# Altium footprint library B-NT_P.PcbLib: 21 footprints (part 1 of 2)
Each footprint in its own frame and in the unit in brackets; x right, y up, seen from the top. Pads: shape width x height; smd on the part's side, far side on the other; paste and mask are expansions set on the pad; w line width, h text height; cw(c..) or ccw(c..) is an arc to the next point about the centre after c.
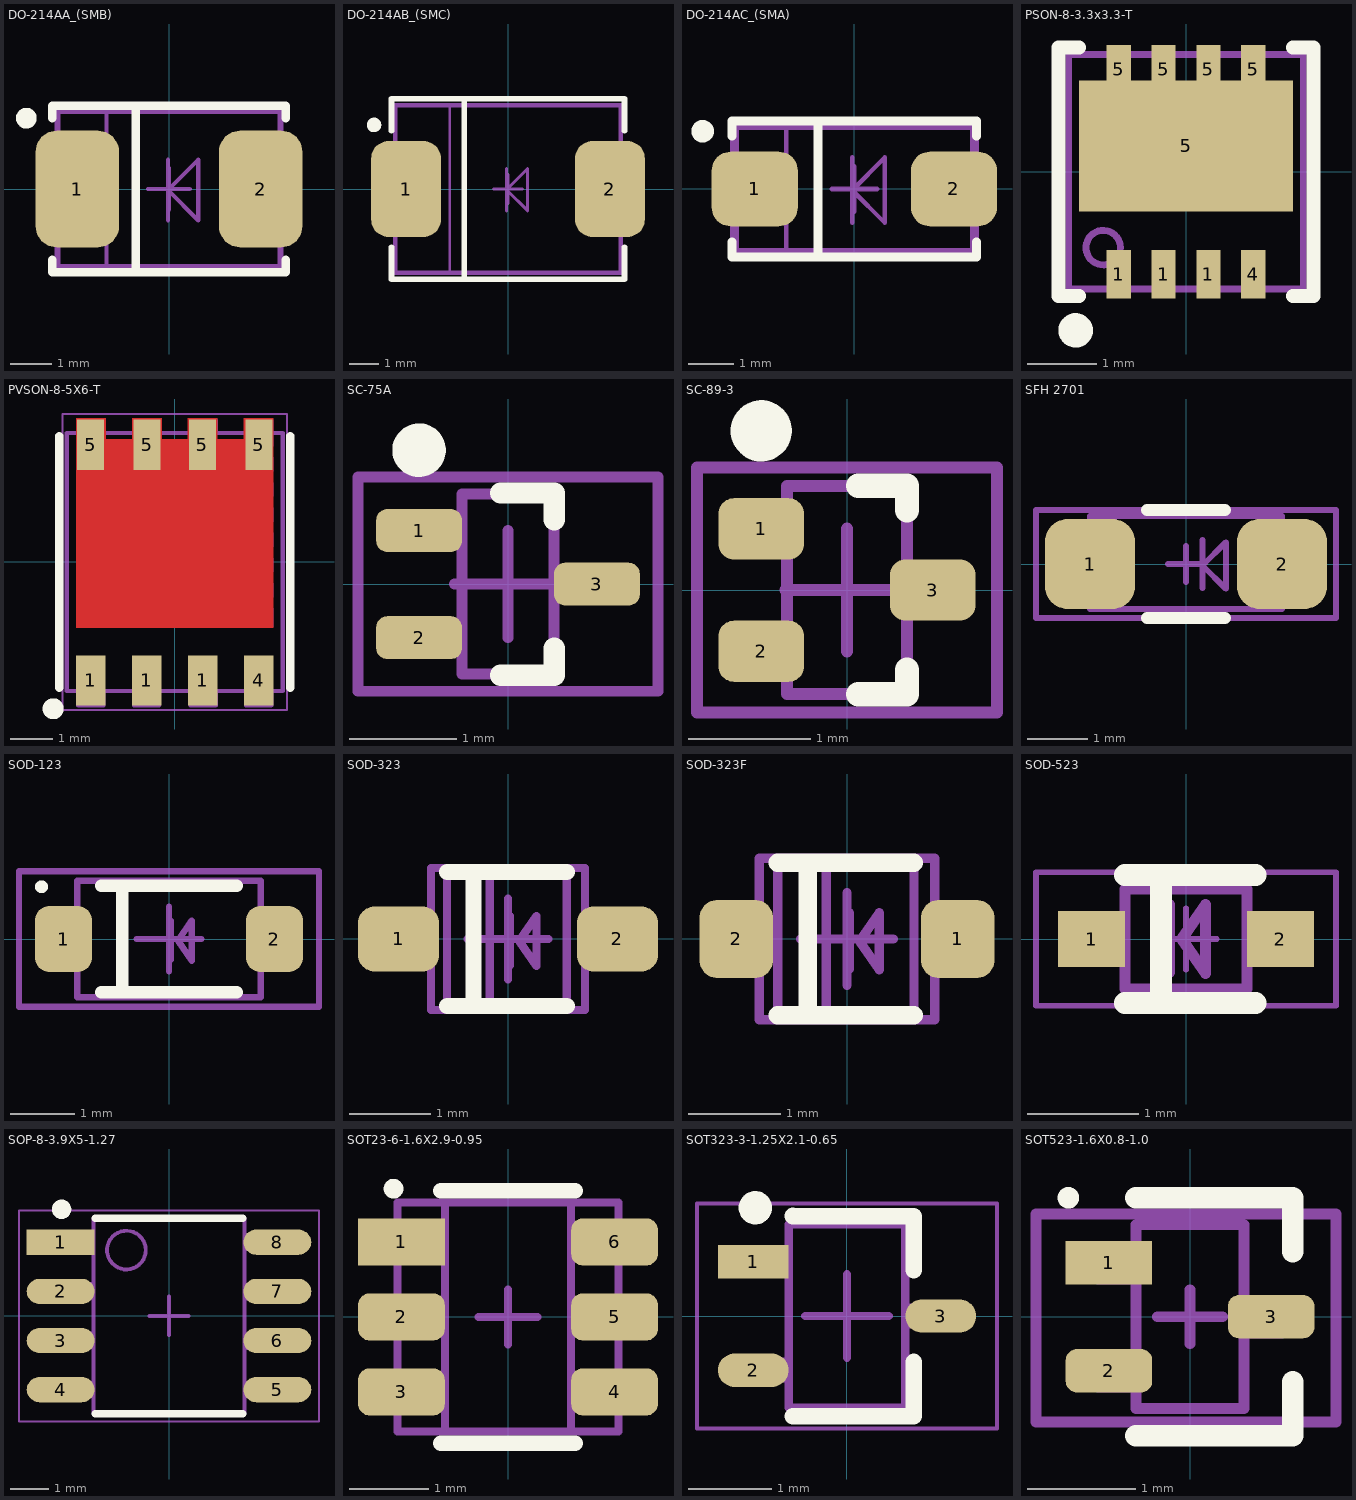
[diagram p0: the footprints below, top view; thin cyan lines are the x and y axes]

## DO-214AA_(SMB) [mm]
pads (2):
  rrect50% 2x2.8 smd: 1(-2.2,0) 2(2.2,0)
Top Overlay:
  circle w0.25: c-3.425,1.7 r0.125
  lines w0.2: -2.8,-1.7 -2.8,-2 2.8,-2 2.8,-1.7 ; -2.8,1.7 -2.8,2 2.8,2 2.8,1.7 ; -0.8,-2 -0.8,2
M3 Top Assy:
  lines w0.1: -1.5,-1.9 -1.5,1.9 ; -0.025,-0.75 -0.025,0.7 ; -2.7,-1.9 2.7,-1.9 2.7,1.9 -2.7,1.9 -2.7,-1.9 ; -0.025,-0.025 0.7,0.7 0.7,-0.75 -0.025,-0.025
M8 Top Brd Anno:
  lines w0.1: -0.5,0 0.5,0 ; 0,-0.5 0,0.5 ; -2.65,-1.85 2.65,-1.85 2.65,1.85 -2.65,1.85 -2.65,-1.85
3D body "SMB (DO-214AA).STEP": height 2.25, standoff 0, extent -2.65,-1.85 2.65,1.85

## DO-214AB_(SMC) [mm]
pads (2):
  rrect50% 2.4x3.3 smd: 1(-3.5,0) 2(3.5,0)
Top Overlay:
  circle w0.25: c-4.6,2.2 r0.125
  lines w0.2: -4,-2 -4,-3.1 4,-3.1 4,-2 ; -4,2 -4,3.1 4,3.1 4,2 ; -1.5,-3.1 -1.5,3.1
M3 Top Assy:
  lines w0.1: -2,-2.9 -2,2.9 ; -0.05,-0.75 -0.05,0.7 ; -3.9,-2.9 3.9,-2.9 3.9,2.9 -3.9,2.9 -3.9,-2.9 ; -0.05,-0.025 0.675,-0.75 0.675,0.7 -0.05,-0.025
M8 Top Brd Anno:
  lines w0.1: -0.5,0 0.5,0 ; 0,-0.5 0,0.5 ; -3.85,-2.85 3.85,-2.85 3.85,2.85 -3.85,2.85 -3.85,-2.85
3D body "SMC (DO214AB).STEP": height 2.4, standoff -0.05, extent -3.9,-2.953 3.9,2.946

## DO-214AC_(SMA) [mm]
pads (2):
  rrect50% 1.9x1.65 smd: 1(-2.2,0) 2(2.2,0)
Top Overlay:
  circle w0.25: c-3.35,1.275 r0.125
  lines w0.2: -2.7,-1.175 -2.7,-1.5 2.7,-1.5 2.7,-1.175 ; -2.7,1.175 -2.7,1.5 2.7,1.5 2.7,1.175 ; -0.8,-1.5 -0.8,1.5
M3 Top Assy:
  lines w0.1: -1.5,-1.4 -1.5,1.4 ; -0.05,-0.75 -0.05,0.7 ; -2.7,-1.4 2.7,-1.4 2.7,1.4 -2.7,1.4 -2.7,-1.4 ; -0.05,-0.025 0.675,-0.75 0.675,0.7 -0.05,-0.025
M8 Top Brd Anno:
  lines w0.1: -0.5,0 0.5,0 ; 0,-0.5 0,0.5 ; -2.6,-1.35 2.6,-1.35 2.6,1.35 -2.6,1.35 -2.6,-1.35
3D body "User Library-DO-214AC(SMA).step": height 2.29, standoff 0, extent -2.743,-1.397 2.743,1.397

## PSON-8-3.3x3.3-T [mm] "VSON, 8-Leads, Body 3.3x3.3mm, Pitch 0.65mm"
height 1
pads (9):
  rect 0.35x0.7 smd: 1(-0.975,-1.485) 1(-0.325,-1.485) 1(0.325,-1.485) 4(0.975,-1.485) 5(-0.975,1.485) 5(-0.325,1.485) 5(0.325,1.485) 5(0.975,1.485)
  rect 3.1x1.9 smd: 5(0,0.375)
Top Overlay:
  circle w0.25: c-1.6,-2.3 r0.125
  lines w0.2: -1.55,-1.8 -1.85,-1.8 -1.85,1.8 -1.55,1.8 ; 1.55,-1.8 1.85,-1.8 1.85,1.8 1.55,1.8
M3 Top Assy:
  circle w0.1: c-1.2,-1.1 r0.25
  lines w0.1: -1.7,-1.7 -1.7,1.7 1.7,1.7 1.7,-1.7 -1.7,-1.7
M8 Top Brd Anno:
  lines w0.05: -1.7,-1.7 1.7,-1.7 1.7,1.7 -1.7,1.7 -1.7,-1.7
  lines w0.1: -0.5,0 0.5,0 ; 0,-0.5 0,0.5
3D body "CSD25404Q3_DQG_8.STP": height 1.1, standoff 0, extent -1.65,-1.65 1.65,1.65

## PVSON-8-5X6-T [mm] "TDSON, 8-Leads, Body 6x5mm, Pitch 1.27mm"
height 1
pads (8):
  rect 0.7x1.2 smd: 1(-2,-2.825) 1(-0.667,-2.825) 1(0.667,-2.825) 4(2,-2.825)
  rect 0.65x1.2 smd: 5(-2.007,2.794) 5(-0.66,2.794) 5(0.66,2.794) 5(2.007,2.794)
Top Layer:
  region: -2.35,2.925 -2.35,-1.575 2.35,-1.575 2.35,2.925
  region: -2.35,2.925 -1.65,2.925 -1.65,3.425 -2.35,3.425
  region: 1.65,2.925 2.35,2.925 2.35,3.425 1.65,3.425
  region: -1.015,2.925 -0.315,2.925 -0.315,3.425 -1.015,3.425
  region: 0.315,2.925 1.015,2.925 1.015,3.425 0.315,3.425
Top Overlay:
  circle w0.25: c-2.9,-3.5 r0.125
  lines w0.2: -2.75,-3 -2.75,3 ; 2.75,-3 2.75,3
M3 Top Assy:
  lines w0.1: -2.3,-3.125 -2.3,-3.425 -1.7,-3.425 -1.7,-3.125 ; -2.3,-1.125 -2.3,-1.525 -1.9,-1.525 ; -2.3,-0.825 -2.3,-0.525 ; -2.3,-0.225 -2.3,0.075 ; -2.3,0.375 -2.3,0.675 ; -2.3,0.975 -2.3,1.275 ; -2.3,1.575 -2.3,1.875 ; -2.3,2.175 -2.3,2.475 ; -2.3,2.775 -2.3,3.075 -2.3,3.375 -1.7,3.375 -1.7,3.075 ; -1.375,-1.525 -1.075,-1.525 ; -0.975,-3.125 -0.975,-3.425 -0.375,-3.425 -0.375,-3.125 ; -0.975,3.075 -0.975,3.375 -0.375,3.375 -0.375,3.075 ; -0.775,-1.525 -0.475,-1.525 ; -0.175,-1.525 0.125,-1.525 ; 0.375,-3.125 0.375,-3.425 0.975,-3.425 0.975,-3.125 ; 0.375,3.075 0.375,3.375 0.975,3.375 0.975,3.075 ; 0.425,-1.525 0.725,-1.525 ; 1.025,-1.525 1.325,-1.525 ; 1.7,-3.125 1.7,-3.425 2.3,-3.425 2.3,-3.125 ; 1.7,3.075 1.7,3.375 2.3,3.375 2.3,3.075 2.3,2.775 ; 1.9,-1.525 2.3,-1.525 2.3,-1.125 ; 2.3,-0.825 2.3,-0.525 ; 2.3,-0.225 2.3,0.075 ; 2.3,0.375 2.3,0.675 ; 2.3,0.975 2.3,1.275 ; 2.3,1.575 2.3,1.875 ; 2.3,2.175 2.3,2.475 ; -2.575,-3.075 -2.575,3.075 2.575,3.075 2.575,-3.075 -2.575,-3.075
M8 Top Brd Anno:
  lines w0.05: -2.675,-3.525 -2.675,3.525 2.675,3.525 2.675,-3.525 -2.675,-3.525
  lines w0.1: -0.5,0 0.5,0 ; 0,-0.5 0,0.5
3D body "User Library-TDSON-8.STEP": height 1.1, standoff -0.01, extent -2.575,-3.175 2.575,3.175

## SC-75A [mm] "SC-75A, 3-Leads, Body 1,58x1,60mm, Pitch 0,50mm, IPC Medium Density"
height 0.8
pads (3):
  rrect50% 0.8x0.4 smd: 1(-0.83,0.5) 2(-0.83,-0.5) 3(0.83,0)
Top Overlay:
  circle w0.25: c-0.83,1.25 r0.125
  lines w0.2: -0.07,-0.85 0.43,-0.85 0.43,-0.6 ; -0.07,0.85 0.43,0.85 0.43,0.6
M3 Top Assy:
  lines w0.1: -0.43,-0.84 0.43,-0.84 0.43,0.84 -0.43,0.84 -0.43,-0.84
M8 Top Brd Anno:
  lines w0.1: -0.5,0 0.5,0 ; 0,-0.5 0,0.5 ; -1.4,-1 1.4,-1 1.4,1 -1.4,1 -1.4,-1
3D body "SC-75A.step": height 0.8, standoff 0, extent -0.9,-0.84 0.9,0.84

## SC-89-3 [mm] "SC-89-3, 3-Leads, Body 1,60x1,60mm, Pitch 0,50mm, IPC Medium Density"
height 0.78
pads (3):
  rrect50% 0.7x0.5 smd: 1(-0.7,0.5) 2(-0.7,-0.5) 3(0.7,0)
Top Overlay:
  circle w0.25: c-0.7,1.3 r0.125
  lines w0.2: 0.09,-0.85 0.49,-0.85 0.49,-0.65 ; 0.09,0.85 0.49,0.85 0.49,0.65
M3 Top Assy:
  lines w0.1: -0.49,-0.85 -0.49,0.85 0.49,0.85 0.49,-0.85 -0.49,-0.85
M8 Top Brd Anno:
  lines w0.1: -0.5,0 0.5,0 ; 0,-0.5 0,0.5 ; -1.225,-1 -1.225,1 1.225,1 1.225,-1 -1.225,-1
3D body "SC-89-3.step": height 0.78, standoff 0, extent -0.8,-0.848 0.8,0.848

## SFH 2701 [mm] "Body 1.65x3.35 mm max"
height 1.25
pads (2):
  rrect50% 1.5x1.5 smd: 1(-1.6,0) 2(1.6,0)
Top Overlay:
  lines w0.2: -0.65,-0.9 0,-0.9 0.65,-0.9 ; -0.65,0.9 0,0.9 0.65,0.9
M3 Top Assy:
  lines w0.1: -1.2,-0.75 -1.2,0.8 ; 0.275,-0.4 0.275,0.4 ; -1.6,-0.75 1.6,-0.75 1.6,0.8 -1.6,0.8 -1.6,-0.75 ; 0.275,-0.025 0.663,-0.412 0.663,0.362 0.275,-0.025
M8 Top Brd Anno:
  lines w0.1: -0.3,0 0.3,0 ; 0,-0.3 0,0.3 ; -2.5,-0.9 -2.5,0.9 2.5,0.9 2.5,-0.9 -2.5,-0.9
3D body "SFH_2701_20160831_geometry.STEP": height 1.1, standoff 0, extent -1.7,-0.75 1.5,0.75

## SOD-123 [mm] "SODFL, 2-Leads, Body 1,60x3,75mm, IPC Medium Density"
height 1.28
pads (2):
  rrect50% 0.88x1.02 smd: 1(-1.635,0) 2(1.635,0)
Top Overlay:
  circle w0.1: c-1.975,0.81 r0.05
  lines w0.2: -1.05,-0.825 1.05,-0.825 ; -1.05,0.825 1.05,0.825 ; -0.725,-0.825 -0.725,0.825
M3 Top Assy:
  lines w0.1: -0.775,-0.9 -0.775,0.9 ; 0.025,-0.325 0.025,0.284 ; 0.142,-0.031 0.35,-0.334 ; 0.142,-0.019 0.35,0.284 0.35,-0.325 ; -1.425,-0.9 1.425,-0.9 1.425,0.9 -1.425,0.9 -1.425,-0.9
M8 Top Brd Anno:
  lines w0.1: -0.5,0 0.5,0 ; 0,-0.5 0,0.5 ; -2.325,-1.05 -2.325,1.05 2.325,1.05 2.325,-1.05 -2.325,-1.05
3D body "User Library-SOD-123_DiodesInc.step": height 1.42, standoff -0.03, extent -1.925,-0.85 1.925,0.85

## SOD-323 [mm] "SC-76, SOD-323 Body 1.8x1.35max"
height 1.15
pads (2):
  rrect50% 1x0.8 smd: 1(-1.35,0) 2(1.35,0)
Top Overlay:
  lines w0.2: -0.75,-0.825 0.725,-0.825 ; -0.75,0.825 0.725,0.825 ; -0.425,-0.825 -0.425,0.825
M3 Top Assy:
  lines w0.1: -0.225,-0.775 -0.225,0.775 ; 0.025,-0.325 0.025,0.284 ; 0.142,-0.031 0.35,-0.334 ; 0.142,-0.019 0.35,0.284 0.35,-0.325 ; -0.75,-0.775 0.725,-0.775 0.725,0.775 -0.75,0.775 -0.75,-0.775
M8 Top Brd Anno:
  lines w0.1: -0.5,0 0.5,0 ; 0,-0.5 0,0.5 ; -0.95,-0.875 0.95,-0.875 0.95,0.875 -0.95,0.875 -0.95,-0.875
3D body "User Library-SOD2513X11.STEP": height 1.1, standoff 0, extent -1.35,-0.625 1.35,0.625

## SOD-323F [mm] "SC-90, SOD-323F Body 1.8x1.35max"
height 1.1
pads (2):
  rrect50% 0.8x0.85 smd: 1(1.2,0) 2(-1.2,0)
Top Overlay:
  lines w0.2: -0.75,-0.825 0.725,-0.825 ; -0.75,0.825 0.725,0.825 ; -0.425,-0.825 -0.425,0.825
M3 Top Assy:
  lines w0.1: -0.225,-0.775 -0.225,0.775 ; 0.025,-0.325 0.025,0.284 ; 0.142,-0.031 0.35,-0.334 ; 0.142,-0.019 0.35,0.284 0.35,-0.325 ; -0.75,-0.775 0.725,-0.775 0.725,0.775 -0.75,0.775 -0.75,-0.775
M8 Top Brd Anno:
  lines w0.1: -0.5,0 0.5,0 ; 0,-0.5 0,0.5 ; -0.95,-0.875 0.95,-0.875 0.95,0.875 -0.95,0.875 -0.95,-0.875
3D body "User Library-SOD323F-1.step": height 1, standoff 0, extent -1.25,-0.675 1.25,0.675

## SOD-523 [mm]
pads (2):
  rect 0.6x0.5 smd: 1(-0.85,0) 2(0.85,0)
Top Overlay:
  lines w0.2: -0.55,-0.575 0.625,-0.575 ; -0.55,0.575 0.625,0.575 ; -0.225,-0.575 -0.225,0.575
M3 Top Assy:
  lines w0.1: -0.55,-0.2 -0.85,-0.2 -0.85,0.2 -0.55,0.2 ; -0.15,-0.3 -0.15,0.309 ; -0.033,-0.006 0.175,-0.309 ; -0.033,0.006 0.175,0.309 0.175,-0.3 ; 0.55,-0.2 0.85,-0.2 0.85,0.2 0.55,0.2 ; -0.55,-0.45 -0.55,0.45 0.55,0.45 0.55,-0.45 -0.55,-0.45
M8 Top Brd Anno:
  lines w0.05: -0.275,0 0,0 ; 0,-0.275 0,0 ; 0,0.275 0,0 ; 0.275,0 0,0 ; -1.35,-0.6 -1.35,0.6 1.35,0.6 1.35,-0.6 -1.35,-0.6
3D body "User Library-SOD523F.STEP": height 0.7, standoff 0, extent -0.85,-0.45 0.85,0.45

## SOP-8-3.9X5-1.27 [mm] "SOIC, 8-Leads, Body 4,90x3,90mm, Pitch 1,27mm, IPC Medium Density"
height 1.65
pads (8):
  rect 1.75x0.65 smd: 1(-2.8,1.905)
  oval 1.75x0.65 smd: 2(-2.8,0.635) 3(-2.8,-0.635) 4(-2.8,-1.905) 5(2.8,-1.905) 6(2.8,-0.635) 7(2.8,0.635) 8(2.8,1.905)
Top Overlay:
  circle w0.25: c-2.775,2.755 r0.125
  lines w0.2: -1.9,-2.525 1.9,-2.525 ; -1.9,2.525 1.9,2.525
M3 Top Assy:
  circle w0.1: c-1.1,1.7 r0.5
  lines w0.1: -1.95,-2.075 -3,-2.075 -3,-1.725 -1.95,-1.725 ; -1.95,-0.8 -3,-0.8 -3,-0.45 -1.95,-0.45 ; -1.95,0.475 -3,0.475 -3,0.825 -1.95,0.825 ; -1.95,1.725 -3,1.725 -3,2.075 -1.95,2.075 ; 1.95,-2.075 3,-2.075 3,-1.725 1.95,-1.725 ; 1.95,-0.825 3,-0.825 3,-0.475 1.95,-0.475 ; 1.95,0.45 3,0.45 3,0.8 1.95,0.8 ; 1.95,1.725 3,1.725 3,2.075 1.95,2.075 ; -1.95,-2.5 1.95,-2.5 1.95,2.5 -1.95,2.5 -1.95,-2.5
M8 Top Brd Anno:
  lines w0.05: 3.85,-2.725 -3.875,-2.725 -3.875,2.725 3.875,2.725 3.875,-2.725
  lines w0.1: -0.5,0 0.5,0 ; 0,-0.5 0,0.5
3D body "CircuitWorks-SO-8.step": height 1.45, standoff 0, extent -2.86,-2.443 2.918,2.459

## SOT23-6-1.6X2.9-0.95 [mm] "SOT, 6-Leads, Body 2,9x1,6mm, Pitch 0,95mm"
height 1.1
pads (6):
  rect 1.1x0.6 smd: 1(-1.35,0.95)
  rrect50% 1.1x0.6 smd: 2(-1.35,0) 3(-1.35,-0.95) 4(1.35,-0.95) 5(1.35,0) 6(1.35,0.95)
Top Overlay:
  circle w0.15: c-1.45,1.625 r0.05
  lines w0.2: -0.85,-1.6 0.85,-1.6 ; -0.85,1.6 0.85,1.6
M3 Top Assy:
  lines w0.1: -0.8,-1.075 -1.4,-1.075 -1.4,-0.775 -0.8,-0.775 ; -0.8,-0.125 -1.4,-0.125 -1.4,0.175 -0.8,0.175 ; -0.8,0.825 -1.4,0.825 -1.4,1.125 -0.8,1.125 ; 0.8,-1.1 1.4,-1.1 1.4,-0.8 0.8,-0.8 ; 0.8,0.8 1.4,0.8 1.4,1.1 0.8,1.1 ; 0.825,-0.15 1.425,-0.15 1.425,0.15 0.825,0.15 ; -0.8,-1.45 0.8,-1.45 0.8,1.45 -0.8,1.45 -0.8,-1.45
M8 Top Brd Anno:
  lines w0.1: -0.375,0 0.375,0 ; 0,-0.35 0,0.35 ; -1.4,-1.45 -1.4,1.45 1.4,1.45 1.4,-1.45 -1.4,-1.45
3D body "STEP-WE-TVS-HS-SOT23-6L-rev1.stp": height 1.06, standoff -0.1, extent -1.4,-1.45 1.4,1.45
3D body "STEP-WE-TVS-HS-SOT23-6L-rev1.stp": height 1.06, standoff -0.1, extent -1.4,-1.45 1.4,1.45
3D body "STEP-WE-TVS-HS-SOT23-6L-rev1.stp": height 1.16, standoff 0, extent -1.4,-1.45 1.4,1.45

## SOT323-3-1.25X2.1-0.65 [mm] "SOT323, 3-Leads, Body 2x1.25mm, Pitch 0.65mm"
height 1
pads (3):
  rect 0.85x0.4 smd: 1(-1.125,0.65)
  oval 0.85x0.4 smd: 2(-1.125,-0.65) 3(1.125,0)
Top Overlay:
  circle w0.2: c-1.1,1.3 r0.1
  lines w0.2: -0.65,-1.2 0.8,-1.2 ; -0.65,1.2 0.8,1.2 ; 0.8,-1.187 0.8,-0.55 ; 0.8,0.55 0.8,1.187
M3 Top Assy:
  lines w0.1: -0.7,-0.75 -1.225,-0.75 -1.225,-0.55 -0.7,-0.55 ; -0.7,0.55 -1.225,0.55 -1.225,0.75 -0.7,0.75 ; 0.7,-0.1 1.225,-0.1 1.225,0.1 0.7,0.1 ; -0.7,-1.1 -0.7,1.1 0.7,1.1 0.7,-1.1 -0.7,-1.1
M8 Top Brd Anno:
  lines w0.05: -1.8,-1.35 -1.8,1.35 1.8,1.35 1.8,-1.35 -1.8,-1.35
  lines w0.1: -0.5,0 0.5,0 ; 0,-0.5 0,0.5
3D body "User Library-sc70-3.STEP": height 1, standoff 0, extent -1.15,-1.05 1.15,1.05

## SOT523-1.6X0.8-1.0 [mm] "SOT523, 3-Leads, Body 1.6x0.8mm, Pitch 1mm"
height 0.6
pads (3):
  rect 0.8x0.4 smd: 1(-0.75,0.5)
  rrect50% 0.8x0.4 smd: 2(-0.75,-0.5) 3(0.75,0)
Top Overlay:
  circle w0.1: c-1.125,1.1 r0.05
  lines w0.2: -0.5,-1.1 0.95,-1.1 0.95,-0.6 ; -0.5,1.1 0.95,1.1 0.95,0.6
M3 Top Assy:
  lines w0.1: -0.5,-0.65 -0.85,-0.65 -0.85,-0.35 -0.5,-0.35 ; -0.5,0.35 -0.85,0.35 -0.85,0.65 -0.5,0.65 ; 0.525,-0.15 0.85,-0.15 0.85,0.15 0.525,0.15 ; -0.5,-0.85 0.5,-0.85 0.5,0.85 -0.5,0.85 -0.5,-0.85
M8 Top Brd Anno:
  lines w0.1: -0.3,0 0.3,0 ; 0,-0.25 0,0.25 ; -1.425,-0.975 1.35,-0.975 1.35,0.95 -1.425,0.95 -1.425,-0.975
3D body "User Library-FDY102PZ.STEP": height 0.78, standoff 0, extent -0.85,-0.85 0.85,0.85